# Altium schematic symbol library BOX.SchLib: 1 symbol
Pins are listed as number, name and electrical type; pins without a type are passive.

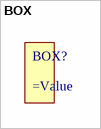
[diagram p0: symbol BOX]

## BOX
designator BOX?  (mechanical)
=Description